# EAGLE library part ADUM1201 (library analog-devices)
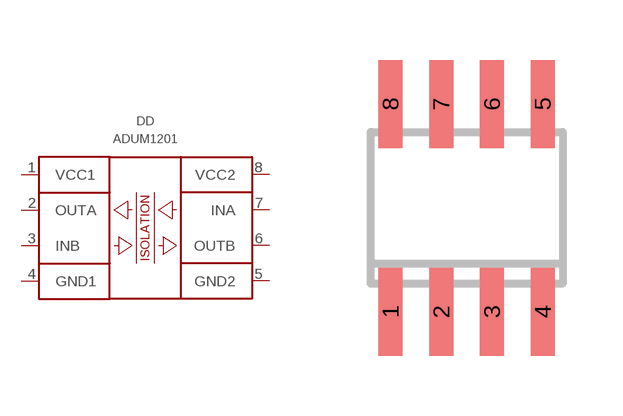
[diagram p25: symbol with the pads of SOIC8; footprint SOIC8]

Designator prefix DD

## ADUM1201ARZ  [SOIC8]
1  VCC1  pwr
2  OUTA  out
3  INB  in
4  GND1  pwr
5  GND2  pwr
6  OUTB  out
7  INA  in
8  VCC2  pwr

## ADUM1201BRZ  [SOIC8]
Pads as for SOIC8

## ADUM1201CRZ  [SOIC8]
Pads as for SOIC8

## Footprint SOIC8 (pad centres in mm)
Small Outline IC
smd 0.6 x 2.2: 1 -1.905,-2.6; 2 -0.635,-2.6; 3 0.635,-2.6; 4 1.905,-2.6; 5 1.905,2.6; 6 0.635,2.6; 7 -0.635,2.6; 8 -1.905,2.6